# Altium footprint library LM7805S_NOPB.PcbLib: 1 footprints
Each footprint in its own frame and in the unit in brackets; x right, y up, seen from the top. Pads: shape width x height; smd on the part's side, far side on the other; paste and mask are expansions set on the pad; w line width, h text height; cw(c..) or ccw(c..) is an arc to the next point about the centre after c.
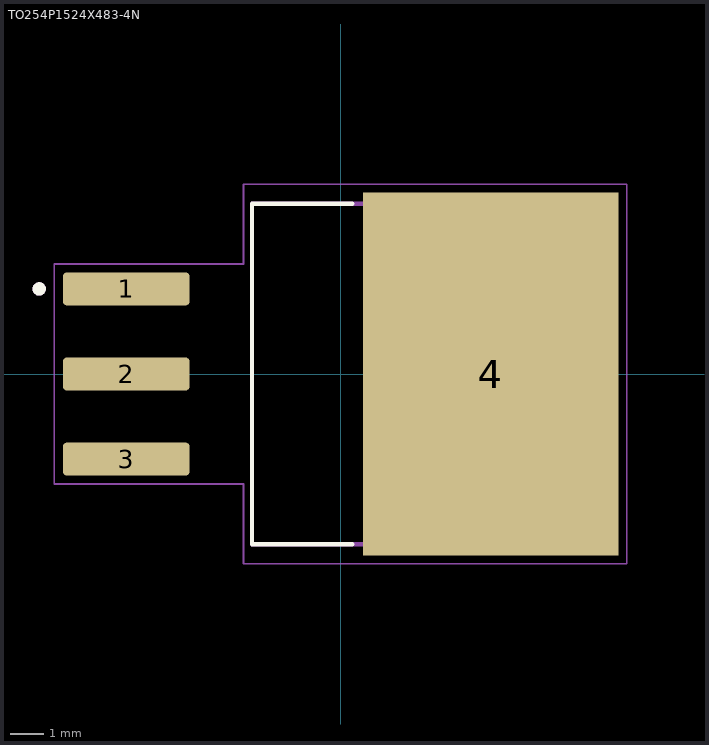
[diagram p0: the footprint, top view; thin cyan lines are the x and y axes]

## TO254P1524X483-4N [mm]
pads (4):
  rrect25% 3.79x0.99 smd: 1(-6.4,2.54) 2(-6.4,0) 3(-6.4,-2.54)
  rect 7.62x10.84 smd paste-6: 4(4.48,0)
Top Overlay:
  circle w0.2: c-9,2.54 r0.1
  lines w0.127: 0.35,-5.08 -2.648,-5.08 -2.648,5.08 0.35,5.08
Mechanical 13:
  circle w0.2: c-9,2.54 r0.1
  lines w0.127: -2.648,-5.08 -2.648,5.08 6.373,5.08 6.373,-5.08 -2.648,-5.08
Mechanical 15:
  lines w0.05: -8.545,-3.285 -2.898,-3.285 -2.898,-5.67 8.54,-5.67 8.54,5.67 -2.898,5.67 -2.898,3.285 -8.545,3.285 -8.545,-3.285
3D body "step_temp.STEP": height 4.65, standoff -0.15, extent -7.175,-5.08 7.175,5.08